# EAGLE library part TC4429CPA (library TC4429CPA)
IC,Driver Interface,MOSFET,IGBT,TC4429CPA Source: Datasheet <https://ww1.microchip.com/downloads/en/DeviceDoc/21419D.pdf>
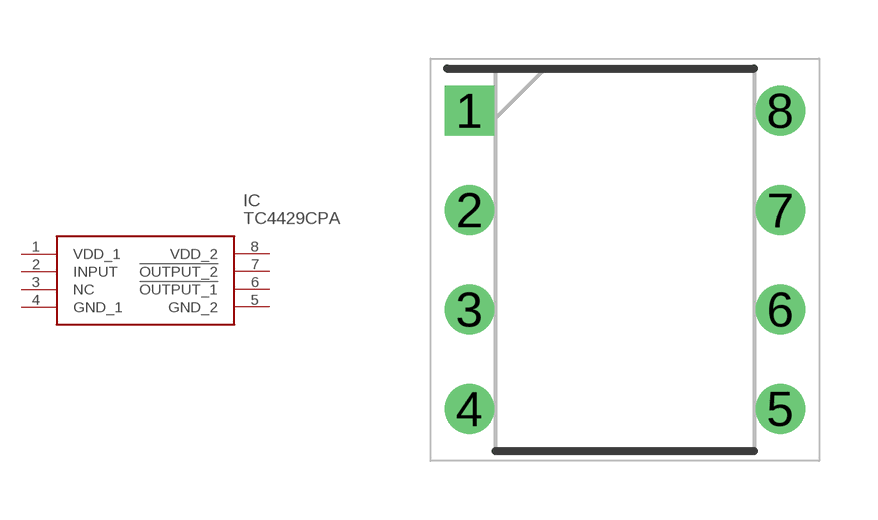
[diagram p0: symbol with the pads of DIP794W56P254L946H432Q8N; footprint DIP794W56P254L946H432Q8N]

Designator prefix IC

## TC4429CPA (Description: IC,Driver Interface,MOSFET,IGBT,TC4429CPA; Height: 4.32mm; Manufacturer_Name: Microchip; Manufacturer_Part_Number: TC4429CPA; Mouser_Part_Number: 579-TC4429CPA; Mouser_Price-Stock: https://www.mouser.co.uk/ProductDetail/Microchip-Technology/TC4429CPA?qs=YUl711QUJY38xt9BogTiMQ%3D%3D)  [DIP794W56P254L946H432Q8N]
1  VDD_1
2  INPUT
3  NC  nc
4  GND_1
5  GND_2
6  !OUTPUT_1
7  !OUTPUT_2
8  VDD_2

## Footprint DIP794W56P254L946H432Q8N (pad centres in mm)
8-Lead Plastic Dual In-line (PA) – 300 mil (PDIP)
drill 0.76 pad 1.16 square: 1 -3.97,3.81
drill 0.76 pad 1.16: 2 -3.97,1.27; 3 -3.97,-1.27; 4 -3.97,-3.81; 5 3.97,-3.81; 6 3.97,-1.27; 7 3.97,1.27; 8 3.97,3.81